# Altium schematic symbol library Si9243.SchLib: 1 symbol
Pins are listed as number, name and electrical type; pins without a type are passive.

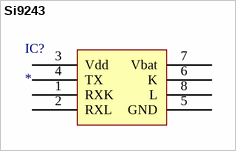
[diagram p0: symbol Si9243]

## Si9243
designator IC?
footprint 8-SOIC (pitch 1.27 mm)
pins: 1 RXK, 2 RXL, 3 Vdd, 4 TX, 5 GND, 6 K, 7 Vbat, 8 L